# EAGLE library part AD9203ARUZ (library My_Library)
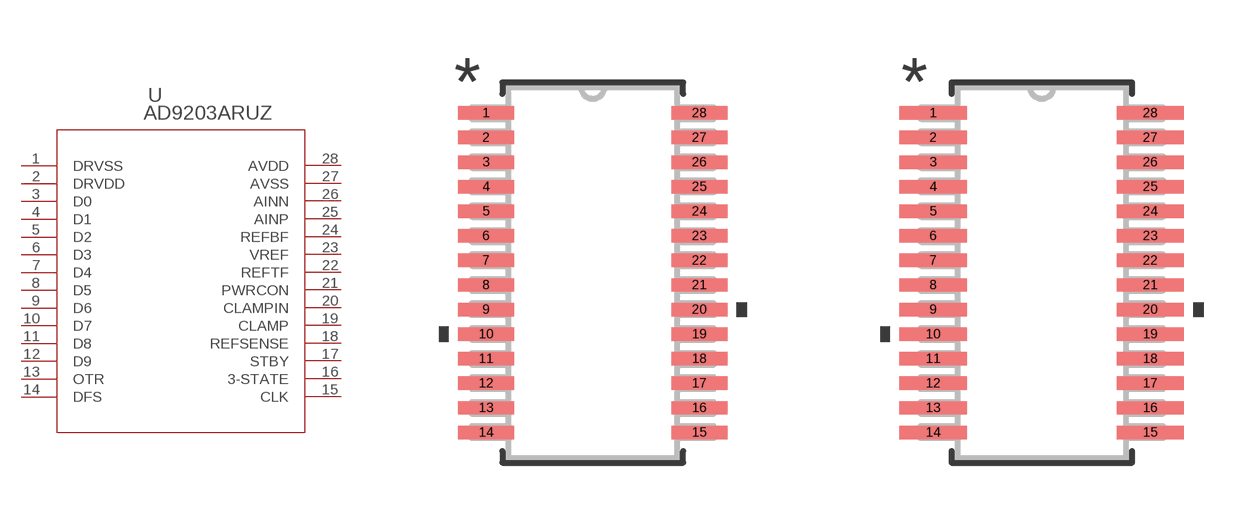
[diagram p20: symbol with the pads of RU_28_ADI; footprints RU_28_ADI, RU_28_ADI-M]

Designator prefix U

## AD9203ARUZ (COPYRIGHT: Copyright (C) 2024 Ultra Librarian. All rights reserved.; MANUFACTURER_PART_NUMBER: AD9203ARUZ; MFR_NAME: Analog Devices Inc)  [RU_28_ADI]
1  DRVSS  pas
2  DRVDD  pwr
3  D0  pas
4  D1  pas
5  D2  pas
6  D3  pas
7  D4  pas
8  D5  pas
9  D6  pas
10  D7  pas
11  D8  pas
12  D9  pas
13  OTR  pas
14  DFS  pas
15  CLK  pas
16  3-STATE  pas
17  STBY  pas
18  REFSENSE  pas
19  CLAMP  pas
20  CLAMPIN  pas
21  PWRCON  pas
22  REFTF  pas
23  VREF  pas
24  REFBF  pas
25  AINP  pas
26  AINN  pas
27  AVSS  pas
28  AVDD  pwr

## AD9203ARUZRU_28_ADI-M (COPYRIGHT: Copyright (C) 2024 Ultra Librarian. All rights reserved.; MANUFACTURER_PART_NUMBER: AD9203ARUZ; MFR_NAME: Analog Devices Inc)  [RU_28_ADI-M]
Pads as for RU_28_ADI

## AD9203ARUZRU_28_ADI-L (COPYRIGHT: Copyright (C) 2024 Ultra Librarian. All rights reserved.; MANUFACTURER_PART_NUMBER: AD9203ARUZ; MFR_NAME: Analog Devices Inc)  [RU_28_ADI-L]
Pads as for RU_28_ADI

## Footprint RU_28_ADI (pad centres in mm)
smd 1.473 x 0.356: 1 -2.819,4.225; 2 -2.819,3.575; 3 -2.819,2.925; 4 -2.819,2.275; 5 -2.819,1.625; 6 -2.819,0.975; 7 -2.819,0.325; 8 -2.819,-0.325; 9 -2.819,-0.975; 10 -2.819,-1.625; 11 -2.819,-2.275; 12 -2.819,-2.925; 13 -2.819,-3.575; 14 -2.819,-4.225; 15 2.819,-4.225; 16 2.819,-3.575; 17 2.819,-2.925; 18 2.819,-2.275; 19 2.819,-1.625; 20 2.819,-0.975; 21 2.819,-0.325; 22 2.819,0.325; 23 2.819,0.975; 24 2.819,1.625; 25 2.819,2.275; 26 2.819,2.925; 27 2.819,3.575; 28 2.819,4.225

## Footprint RU_28_ADI-M (pad centres in mm)
smd 1.778 x 0.356: 1 -2.87,4.225; 2 -2.87,3.575; 3 -2.87,2.925; 4 -2.87,2.275; 5 -2.87,1.625; 6 -2.87,0.975; 7 -2.87,0.325; 8 -2.87,-0.325; 9 -2.87,-0.975; 10 -2.87,-1.625; 11 -2.87,-2.275; 12 -2.87,-2.925; 13 -2.87,-3.575; 14 -2.87,-4.225; 15 2.87,-4.225; 16 2.87,-3.575; 17 2.87,-2.925; 18 2.87,-2.275; 19 2.87,-1.625; 20 2.87,-0.975; 21 2.87,-0.325; 22 2.87,0.325; 23 2.87,0.975; 24 2.87,1.625; 25 2.87,2.275; 26 2.87,2.925; 27 2.87,3.575; 28 2.87,4.225

## Footprint RU_28_ADI-L (pad centres in mm)
smd 1.168 x 0.305: 1 -2.769,4.225; 2 -2.769,3.575; 3 -2.769,2.925; 4 -2.769,2.275; 5 -2.769,1.625; 6 -2.769,0.975; 7 -2.769,0.325; 8 -2.769,-0.325; 9 -2.769,-0.975; 10 -2.769,-1.625; 11 -2.769,-2.275; 12 -2.769,-2.925; 13 -2.769,-3.575; 14 -2.769,-4.225; 15 2.769,-4.225; 16 2.769,-3.575; 17 2.769,-2.925; 18 2.769,-2.275; 19 2.769,-1.625; 20 2.769,-0.975; 21 2.769,-0.325; 22 2.769,0.325; 23 2.769,0.975; 24 2.769,1.625; 25 2.769,2.275; 26 2.769,2.925; 27 2.769,3.575; 28 2.769,4.225